# EAGLE library part ABX00042 (library ABX00042)
STM32H747 Portenta H7 series ARM Cortex-M4, Cortex-M7 MCU 32-Bit Embedded Evaluation Board Check availability <https://pricing.snapeda.com/parts/ABX00042/Arduino/view-part?ref=eda>
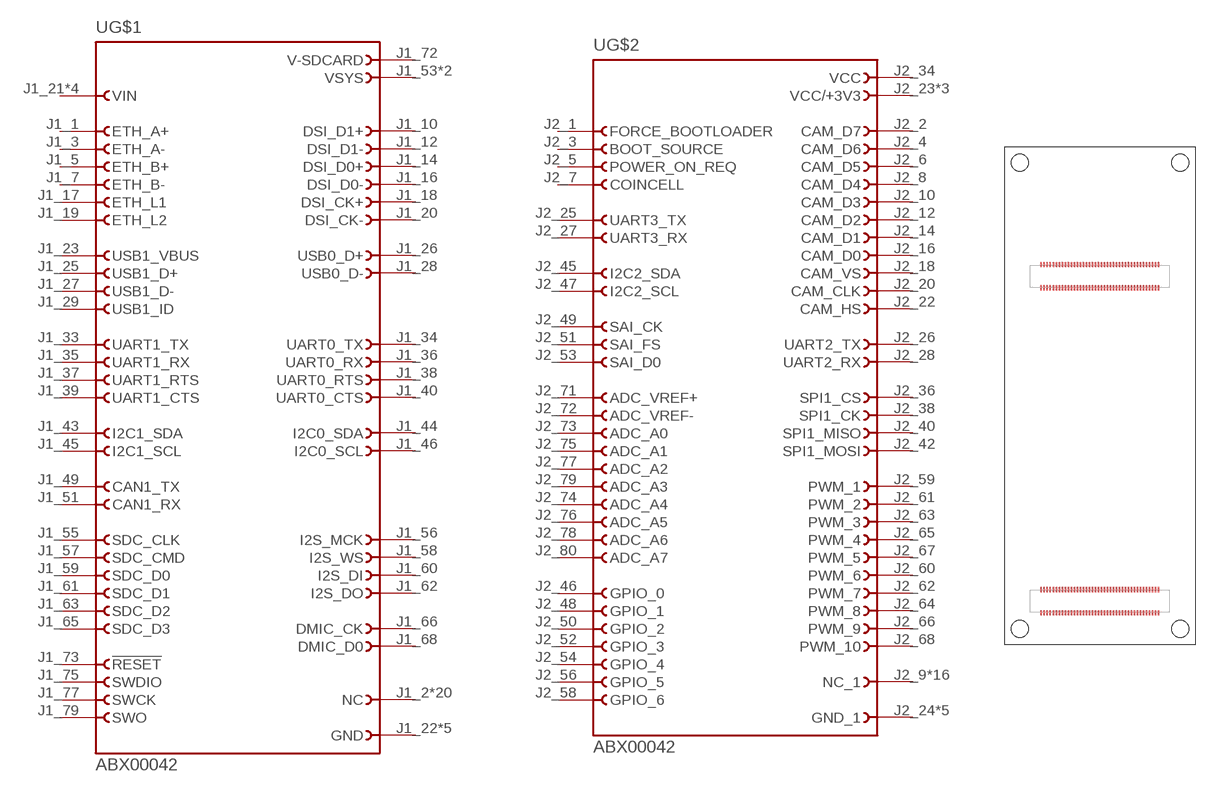
[diagram p0: symbol with the pads of MODULE_ABX00042; footprint MODULE_ABX00042]

Designator prefix U; gates G$1=ABX00042_J1 G$2=ABX00042_J2

## ABX00042 (AVAILABILITY: In Stock; CHECK_PRICES: https://www.snapeda.com/parts/ABX00042/Arduino/view-part/?ref=eda; DESCRIPTION: Development Boards & Kits - ARM Portenta H7 | Arduino ABX00042; MF: Arduino; MP: ABX00042; PACKAGE: None; PRICE: None; PURCHASE-URL: https://www.snapeda.com/api/url_track_click_mouser/?unipart_id=6801596&manufacturer=Arduino&part_name=ABX00042&search_term=None; SNAPEDA_LINK: https://www.snapeda.com/parts/ABX00042/Arduino/view-part/?ref=snap)  [MODULE_ABX00042]
J1_1  G$1:ETH_A+  in
J1_2  G$1:NC  nc
J1_3  G$1:ETH_A-  in
J1_4  G$1:NC  nc
J1_5  G$1:ETH_B+  in
J1_6  G$1:NC  nc
J1_7  G$1:ETH_B-  in
J1_8  G$1:NC  nc
J1_9  G$1:NC  nc
J1_10  G$1:DSI_D1+
J1_11  G$1:NC  nc
J1_12  G$1:DSI_D1-
J1_13  G$1:NC  nc
J1_14  G$1:DSI_D0+
J1_15  G$1:NC  nc
J1_16  G$1:DSI_D0-
J1_17  G$1:ETH_L1  out
J1_18  G$1:DSI_CK+
J1_19  G$1:ETH_L2  out
J1_20  G$1:DSI_CK-
J1_21  G$1:VIN  in
J1_22  G$1:GND  pwr
J1_23  G$1:USB1_VBUS  pwr
J1_24  G$1:NC  nc
J1_25  G$1:USB1_D+
J1_26  G$1:USB0_D+
J1_27  G$1:USB1_D-
J1_28  G$1:USB0_D-
J1_29  G$1:USB1_ID
J1_30  G$1:NC  nc
J1_31  G$1:GND  pwr
J1_32  G$1:VIN  in
J1_33  G$1:UART1_TX  out
J1_34  G$1:UART0_TX  out
J1_35  G$1:UART1_RX  in
J1_36  G$1:UART0_RX  in
J1_37  G$1:UART1_RTS
J1_38  G$1:UART0_RTS
J1_39  G$1:UART1_CTS
J1_40  G$1:UART0_CTS
J1_41  G$1:VIN  in
J1_42  G$1:GND  pwr
J1_43  G$1:I2C1_SDA
J1_44  G$1:I2C0_SDA
J1_45  G$1:I2C1_SCL  in
J1_46  G$1:I2C0_SCL  in
J1_47  G$1:GND  pwr
J1_48  G$1:VIN  in
J1_49  G$1:CAN1_TX  out
J1_50  G$1:NC  nc
J1_51  G$1:CAN1_RX  in
J1_52  G$1:NC  nc
J1_53  G$1:VSYS  pwr
J1_54  G$1:GND  pwr
J1_55  G$1:SDC_CLK  in
J1_56  G$1:I2S_MCK
J1_57  G$1:SDC_CMD  in
J1_58  G$1:I2S_WS
J1_59  G$1:SDC_D0
J1_60  G$1:I2S_DI  in
J1_61  G$1:SDC_D1
J1_62  G$1:I2S_DO  out
J1_63  G$1:SDC_D2
J1_64  G$1:VSYS  pwr
J1_65  G$1:SDC_D3
J1_66  G$1:DMIC_CK
J1_67  G$1:NC  nc
J1_68  G$1:DMIC_D0
J1_69  G$1:NC  nc
J1_70  G$1:NC  nc
J1_71  G$1:NC  nc
J1_72  G$1:V-SDCARD  pwr
J1_73  G$1:!RESET  in
J1_74  G$1:NC  nc
J1_75  G$1:SWDIO
J1_76  G$1:NC  nc
J1_77  G$1:SWCK  in
J1_78  G$1:NC  nc
J1_79  G$1:SWO  out
J1_80  G$1:NC  nc
J2_1  G$2:FORCE_BOOTLOADER  in
J2_2  G$2:CAM_D7
J2_3  G$2:BOOT_SOURCE  in
J2_4  G$2:CAM_D6
J2_5  G$2:POWER_ON_REQ  in
J2_6  G$2:CAM_D5
J2_7  G$2:COINCELL  in
J2_8  G$2:CAM_D4
J2_9  G$2:NC_1  nc
J2_10  G$2:CAM_D3
J2_11  G$2:NC_1  nc
J2_12  G$2:CAM_D2
J2_13  G$2:NC_1  nc
J2_14  G$2:CAM_D1
J2_15  G$2:NC_1  nc
J2_16  G$2:CAM_D0
J2_17  G$2:NC_1  nc
J2_18  G$2:CAM_VS
J2_19  G$2:NC_1  nc
J2_20  G$2:CAM_CLK
J2_21  G$2:NC_1  nc
J2_22  G$2:CAM_HS
J2_23  G$2:VCC/+3V3  pwr
J2_24  G$2:GND_1  pwr
J2_25  G$2:UART3_TX  out
J2_26  G$2:UART2_TX  out
J2_27  G$2:UART3_RX  in
J2_28  G$2:UART2_RX  in
J2_29  G$2:NC_1  nc
J2_30  G$2:NC_1  nc
J2_31  G$2:NC_1  nc
J2_32  G$2:NC_1  nc
J2_33  G$2:GND_1  pwr
J2_34  G$2:VCC  pwr
J2_35  G$2:NC_1  nc
J2_36  G$2:SPI1_CS  in
J2_37  G$2:NC_1  nc
J2_38  G$2:SPI1_CK  in
J2_39  G$2:NC_1  nc
J2_40  G$2:SPI1_MISO  out
J2_41  G$2:NC_1  nc
J2_42  G$2:SPI1_MOSI  in
J2_43  G$2:VCC/+3V3  pwr
J2_44  G$2:GND_1  pwr
J2_45  G$2:I2C2_SDA
J2_46  G$2:GPIO_0
J2_47  G$2:I2C2_SCL  in
J2_48  G$2:GPIO_1
J2_49  G$2:SAI_CK  in
J2_50  G$2:GPIO_2
J2_51  G$2:SAI_FS
J2_52  G$2:GPIO_3
J2_53  G$2:SAI_D0
J2_54  G$2:GPIO_4
J2_55  G$2:NC_1  nc
J2_56  G$2:GPIO_5
J2_57  G$2:GND_1  pwr
J2_58  G$2:GPIO_6
J2_59  G$2:PWM_1
J2_60  G$2:PWM_6
J2_61  G$2:PWM_2
J2_62  G$2:PWM_7
J2_63  G$2:PWM_3
J2_64  G$2:PWM_8
J2_65  G$2:PWM_4
J2_66  G$2:PWM_9
J2_67  G$2:PWM_5
J2_68  G$2:PWM_10
J2_69  G$2:VCC/+3V3  pwr
J2_70  G$2:GND_1  pwr
J2_71  G$2:ADC_VREF+  in
J2_72  G$2:ADC_VREF-  in
J2_73  G$2:ADC_A0  in
J2_74  G$2:ADC_A4  in
J2_75  G$2:ADC_A1  in
J2_76  G$2:ADC_A5  in
J2_77  G$2:ADC_A2  in
J2_78  G$2:ADC_A6  in
J2_79  G$2:ADC_A3  in
J2_80  G$2:ADC_A7  in

## Footprint MODULE_ABX00042 (pad centres in mm)
smd 0.2 x 0.7: J1_1 -7.8,17.42; J1_2 -7.8,14.34; J1_3 -7.4,17.42; J1_4 -7.4,14.34; J1_5 -7,17.42; J1_6 -7,14.34; J1_7 -6.6,17.42; J1_8 -6.6,14.34; J1_9 -6.2,17.42; J1_10 -6.2,14.34; J1_11 -5.8,17.42; J1_12 -5.8,14.34; J1_13 -5.4,17.42; J1_14 -5.4,14.34; J1_15 -5,17.42; J1_16 -5,14.34; J1_17 -4.6,17.42; J1_18 -4.6,14.34; J1_19 -4.2,17.42; J1_20 -4.2,14.34; J1_21 -3.8,17.42; J1_22 -3.8,14.34; J1_23 -3.4,17.42; J1_24 -3.4,14.34; J1_25 -3,17.42; J1_26 -3,14.34; J1_27 -2.6,17.42; J1_28 -2.6,14.34; J1_29 -2.2,17.42; J1_30 -2.2,14.34; J1_31 -1.8,17.42; J1_32 -1.8,14.34; J1_33 -1.4,17.42; J1_34 -1.4,14.34; J1_35 -1,17.42; J1_36 -1,14.34; J1_37 -0.6,17.42; J1_38 -0.6,14.34; J1_39 -0.2,17.42; J1_40 -0.2,14.34; J1_41 0.2,17.42; J1_42 0.2,14.34; J1_43 0.6,17.42; J1_44 0.6,14.34; J1_45 1,17.42; J1_46 1,14.34; J1_47 1.4,17.42; J1_48 1.4,14.34; J1_49 1.8,17.42; J1_50 1.8,14.34; J1_51 2.2,17.42; J1_52 2.2,14.34; J1_53 2.6,17.42; J1_54 2.6,14.34; J1_55 3,17.42; J1_56 3,14.34; J1_57 3.4,17.42; J1_58 3.4,14.34; J1_59 3.8,17.42; J1_60 3.8,14.34; J1_61 4.2,17.42; J1_62 4.2,14.34; J1_63 4.6,17.42; J1_64 4.6,14.34; J1_65 5,17.42; J1_66 5,14.34; J1_67 5.4,17.42; J1_68 5.4,14.34; J1_69 5.8,17.42; J1_70 5.8,14.34; J1_71 6.2,17.42; J1_72 6.2,14.34; J1_73 6.6,17.42; J1_74 6.6,14.34; J1_75 7,17.42; J1_76 7,14.34; J1_77 7.4,17.42; J1_78 7.4,14.34; J1_79 7.8,17.42; J1_80 7.8,14.34; J2_1 7.8,-28.84; J2_2 7.8,-25.76; J2_3 7.4,-28.84; J2_4 7.4,-25.76; J2_5 7,-28.84; J2_6 7,-25.76; J2_7 6.6,-28.84; J2_8 6.6,-25.76; J2_9 6.2,-28.84; J2_10 6.2,-25.76; J2_11 5.8,-28.84; J2_12 5.8,-25.76; J2_13 5.4,-28.84; J2_14 5.4,-25.76; J2_15 5,-28.84; J2_16 5,-25.76; J2_17 4.6,-28.84; J2_18 4.6,-25.76; J2_19 4.2,-28.84; J2_20 4.2,-25.76; J2_21 3.8,-28.84; J2_22 3.8,-25.76; J2_23 3.4,-28.84; J2_24 3.4,-25.76; J2_25 3,-28.84; J2_26 3,-25.76; J2_27 2.6,-28.84; J2_28 2.6,-25.76; J2_29 2.2,-28.84; J2_30 2.2,-25.76; J2_31 1.8,-28.84; J2_32 1.8,-25.76; J2_33 1.4,-28.84; J2_34 1.4,-25.76; J2_35 1,-28.84; J2_36 1,-25.76; J2_37 0.6,-28.84; J2_38 0.6,-25.76; J2_39 0.2,-28.84; J2_40 0.2,-25.76; J2_41 -0.2,-28.84; J2_42 -0.2,-25.76; J2_43 -0.6,-28.84; J2_44 -0.6,-25.76; J2_45 -1,-28.84; J2_46 -1,-25.76; J2_47 -1.4,-28.84; J2_48 -1.4,-25.76; J2_49 -1.8,-28.84; J2_50 -1.8,-25.76; J2_51 -2.2,-28.84; J2_52 -2.2,-25.76; J2_53 -2.6,-28.84; J2_54 -2.6,-25.76; J2_55 -3,-28.84; J2_56 -3,-25.76; J2_57 -3.4,-28.84; J2_58 -3.4,-25.76; J2_59 -3.8,-28.84; J2_60 -3.8,-25.76; J2_61 -4.2,-28.84; J2_62 -4.2,-25.76; J2_63 -4.6,-28.84; J2_64 -4.6,-25.76; J2_65 -5,-28.84; J2_66 -5,-25.76; J2_67 -5.4,-28.84; J2_68 -5.4,-25.76; J2_69 -5.8,-28.84; J2_70 -5.8,-25.76; J2_71 -6.2,-28.84; J2_72 -6.2,-25.76; J2_73 -6.6,-28.84; J2_74 -6.6,-25.76; J2_75 -7,-28.84; J2_76 -7,-25.76; J2_77 -7.4,-28.84; J2_78 -7.4,-25.76; J2_79 -7.8,-28.84; J2_80 -7.8,-25.76
hole 2.25 at -10.67,30.99
hole 2.25 at 10.67,30.99
hole 2.25 at 10.67,-30.99
hole 2.25 at -10.67,-30.99